# Altium footprint library SOP.PcbLib: 64 footprints (part 3 of 4)
Each footprint in its own frame and in the unit in brackets; x right, y up, seen from the top. Pads: shape width x height; smd on the part's side, far side on the other; paste and mask are expansions set on the pad; w line width, h text height; cw(c..) or ccw(c..) is an arc to the next point about the centre after c.
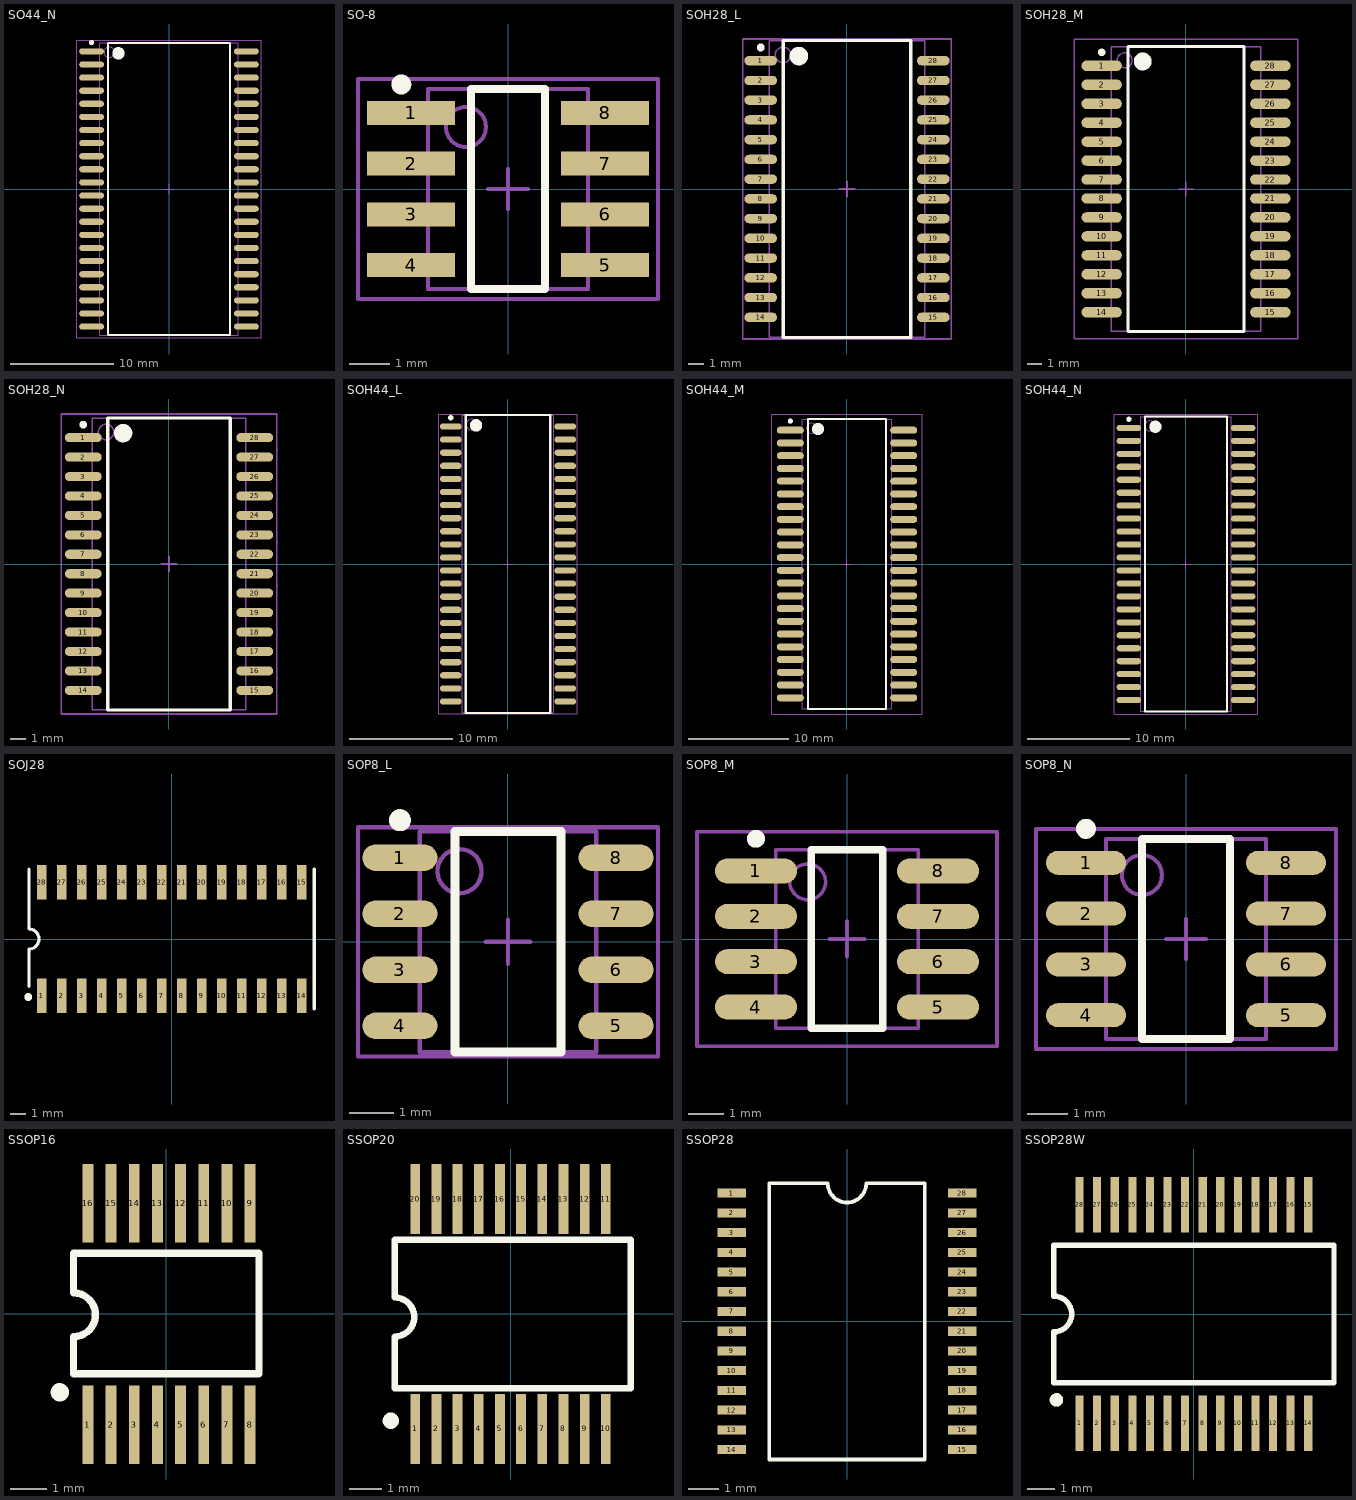
[diagram p2: the footprints below, top view; thin cyan lines are the x and y axes]

## SO44_N [mm] "44-Pin Plastic Small Outline Package 1.27 mm Pitch, IPC Medium Density"
pads (44):
  oval 2.4x0.6 smd: 1(-7.5,13.335) 2(-7.5,12.065) 3(-7.5,10.795) 4(-7.5,9.525) 5(-7.5,8.255) 6(-7.5,6.985) 7(-7.5,5.715) 8(-7.5,4.445) 9(-7.5,3.175) 10(-7.5,1.905) 11(-7.5,0.635) 12(-7.5,-0.635) 13(-7.5,-1.905) 14(-7.5,-3.175) 15(-7.5,-4.445) 16(-7.5,-5.715) 17(-7.5,-6.985) 18(-7.5,-8.255) 19(-7.5,-9.525) 20(-7.5,-10.795) 21(-7.5,-12.065) 22(-7.5,-13.335) 23(7.5,-13.335) 24(7.5,-12.065) 25(7.5,-10.795) 26(7.5,-9.525) 27(7.5,-8.255) 28(7.5,-6.985) 29(7.5,-5.715) 30(7.5,-4.445) 31(7.5,-3.175) 32(7.5,-1.905) 33(7.5,-0.635) 34(7.5,0.635) 35(7.5,1.905) 36(7.5,3.175) 37(7.5,4.445) 38(7.5,5.715) 39(7.5,6.985) 40(7.5,8.255) 41(7.5,9.525) 42(7.5,10.795) 43(7.5,12.065) 44(7.5,13.335)
Top Overlay:
  circle w0.25: c-7.5,14.185 r0.125
  circle w0.6: c-4.9,13.15 r0.3
  lines w0.2: -5.9,-14.15 -5.9,14.15 5.9,14.15 5.9,-14.15 -5.9,-14.15
Mechanical 13:
  circle w0.1: c-5.8,13.25 r0.5
  lines w0.1: -6.7,-14.15 -6.7,14.15 6.7,14.15 6.7,-14.15 -6.7,-14.15
Mechanical 15:
  lines w0.1: -0.5,0 0.5,0 ; 0,-0.5 0,0.5 ; -8.95,-14.4 -8.95,14.4 8.95,14.4 8.95,-14.4 -8.95,-14.4
3D body: height 0, standoff 0, extent -6.7,-14.15 6.7,14.15

## SO-8 [mm] "1.2 A current limited high-side power switch with thermal shutdown"
height 1.75
pads (8):
  rect 2.2x0.6 smd: 1(-2.425,1.905) 2(-2.425,0.635) 3(-2.425,-0.635) 4(-2.425,-1.905) 5(2.425,-1.905) 6(2.425,-0.635) 7(2.425,0.635) 8(2.425,1.905)
Top Overlay:
  circle w0.25: c-2.667,2.614 r0.125
  lines w0.2: -0.925,-2.5 -0.925,2.5 0.925,2.5 0.925,-2.5 -0.925,-2.5
Mechanical 13:
  circle w0.1: c-1.05,1.55 r0.5
  lines w0.1: -2,-2.5 -2,2.5 2,2.5 2,-2.5 -2,-2.5
Mechanical 15:
  lines w0.1: -0.5,0 0.5,0 ; 0,-0.5 0,0.5 ; -3.75,-2.75 -3.75,2.75 3.75,2.75 3.75,-2.75 -3.75,-2.75
3D body: height 1.45, standoff 0.1, extent -2,-2.5 2,2.5

## SOH28_L [mm] "28-Pin Plastic Battery Snaphat Small Outline Package 1.27 mm Pitch, IPC High Density"
height 3.05
pads (28):
  oval 2.1x0.6 smd: 1(-5.55,8.255) 2(-5.55,6.985) 3(-5.55,5.715) 4(-5.55,4.445) 5(-5.55,3.175) 6(-5.55,1.905) 7(-5.55,0.635) 8(-5.55,-0.635) 9(-5.55,-1.905) 10(-5.55,-3.175) 11(-5.55,-4.445) 12(-5.55,-5.715) 13(-5.55,-6.985) 14(-5.55,-8.255) 15(5.55,-8.255) 16(5.55,-6.985) 17(5.55,-5.715) 18(5.55,-4.445) 19(5.55,-3.175) 20(5.55,-1.905) 21(5.55,-0.635) 22(5.55,0.635) 23(5.55,1.905) 24(5.55,3.175) 25(5.55,4.445) 26(5.55,5.715) 27(5.55,6.985) 28(5.55,8.255)
Top Overlay:
  circle w0.25: c-5.55,9.105 r0.125
  circle w0.6: c-3.1,8.55 r0.3
  lines w0.2: -4.1,-9.55 -4.1,9.55 4.1,9.55 4.1,-9.55 -4.1,-9.55
Mechanical 13:
  circle w0.1: c-4.115,8.625 r0.5
  lines w0.1: -5.015,-9.525 -5.015,9.525 5.015,9.525 5.015,-9.525 -5.015,-9.525
Mechanical 15:
  lines w0.1: -0.5,0 0.5,0 ; 0,-0.5 0,0.5 ; -6.7,-9.65 -6.7,9.65 6.7,9.65 6.7,-9.65 -6.7,-9.65
3D body: height 3.05, standoff 0, extent -5.015,-9.525 5.015,9.525

## SOH28_M [mm] "28-Pin Plastic Battery Snaphat Small Outline Package 1.27 mm Pitch, IPC Low Density"
height 3.05
pads (28):
  oval 2.7x0.7 smd: 1(-5.65,8.255) 2(-5.65,6.985) 3(-5.65,5.715) 4(-5.65,4.445) 5(-5.65,3.175) 6(-5.65,1.905) 7(-5.65,0.635) 8(-5.65,-0.635) 9(-5.65,-1.905) 10(-5.65,-3.175) 11(-5.65,-4.445) 12(-5.65,-5.715) 13(-5.65,-6.985) 14(-5.65,-8.255) 15(5.65,-8.255) 16(5.65,-6.985) 17(5.65,-5.715) 18(5.65,-4.445) 19(5.65,-3.175) 20(5.65,-1.905) 21(5.65,-0.635) 22(5.65,0.635) 23(5.65,1.905) 24(5.65,3.175) 25(5.65,4.445) 26(5.65,5.715) 27(5.65,6.985) 28(5.65,8.255)
Top Overlay:
  circle w0.25: c-5.65,9.155 r0.125
  circle w0.6: c-2.9,8.55 r0.3
  lines w0.2: -3.9,-9.55 -3.9,9.55 3.9,9.55 3.9,-9.55 -3.9,-9.55
Mechanical 13:
  circle w0.1: c-4.115,8.625 r0.5
  lines w0.1: -5.015,-9.525 -5.015,9.525 5.015,9.525 5.015,-9.525 -5.015,-9.525
Mechanical 15:
  lines w0.1: -0.5,0 0.5,0 ; 0,-0.5 0,0.5 ; -7.5,-10.05 -7.5,10.05 7.5,10.05 7.5,-10.05 -7.5,-10.05
3D body: height 3.05, standoff 0, extent -5.015,-9.525 5.015,9.525

## SOH28_N [mm] "28-Pin Plastic Battery Snaphat Small Outline Package 1.27 mm Pitch, IPC Medium Density"
height 3.05
pads (28):
  oval 2.4x0.6 smd: 1(-5.6,8.255) 2(-5.6,6.985) 3(-5.6,5.715) 4(-5.6,4.445) 5(-5.6,3.175) 6(-5.6,1.905) 7(-5.6,0.635) 8(-5.6,-0.635) 9(-5.6,-1.905) 10(-5.6,-3.175) 11(-5.6,-4.445) 12(-5.6,-5.715) 13(-5.6,-6.985) 14(-5.6,-8.255) 15(5.6,-8.255) 16(5.6,-6.985) 17(5.6,-5.715) 18(5.6,-4.445) 19(5.6,-3.175) 20(5.6,-1.905) 21(5.6,-0.635) 22(5.6,0.635) 23(5.6,1.905) 24(5.6,3.175) 25(5.6,4.445) 26(5.6,5.715) 27(5.6,6.985) 28(5.6,8.255)
Top Overlay:
  circle w0.25: c-5.6,9.105 r0.125
  circle w0.6: c-3,8.55 r0.3
  lines w0.2: -4,-9.55 -4,9.55 4,9.55 4,-9.55 -4,-9.55
Mechanical 13:
  circle w0.1: c-4.115,8.625 r0.5
  lines w0.1: -5.015,-9.525 -5.015,9.525 5.015,9.525 5.015,-9.525 -5.015,-9.525
Mechanical 15:
  lines w0.1: -0.5,0 0.5,0 ; 0,-0.5 0,0.5 ; -7.05,-9.8 -7.05,9.8 7.05,9.8 7.05,-9.8 -7.05,-9.8
3D body: height 3.05, standoff 0, extent -5.015,-9.525 5.015,9.525

## SOH44_L [mm] "44-Pin Plastic Battery Snaphat Small Outline Package 1.27 mm Pitch, IPC High Density"
height 3.05
pads (44):
  oval 2.1x0.6 smd: 1(-5.55,13.335) 2(-5.55,12.065) 3(-5.55,10.795) 4(-5.55,9.525) 5(-5.55,8.255) 6(-5.55,6.985) 7(-5.55,5.715) 8(-5.55,4.445) 9(-5.55,3.175) 10(-5.55,1.905) 11(-5.55,0.635) 12(-5.55,-0.635) 13(-5.55,-1.905) 14(-5.55,-3.175) 15(-5.55,-4.445) 16(-5.55,-5.715) 17(-5.55,-6.985) 18(-5.55,-8.255) 19(-5.55,-9.525) 20(-5.55,-10.795) 21(-5.55,-12.065) 22(-5.55,-13.335) 23(5.55,-13.335) 24(5.55,-12.065) 25(5.55,-10.795) 26(5.55,-9.525) 27(5.55,-8.255) 28(5.55,-6.985) 29(5.55,-5.715) 30(5.55,-4.445) 31(5.55,-3.175) 32(5.55,-1.905) 33(5.55,-0.635) 34(5.55,0.635) 35(5.55,1.905) 36(5.55,3.175) 37(5.55,4.445) 38(5.55,5.715) 39(5.55,6.985) 40(5.55,8.255) 41(5.55,9.525) 42(5.55,10.795) 43(5.55,12.065) 44(5.55,13.335)
Top Overlay:
  circle w0.25: c-5.55,14.185 r0.125
  circle w0.6: c-3.1,13.45 r0.3
  lines w0.2: -4.1,-14.45 -4.1,14.45 4.1,14.45 4.1,-14.45 -4.1,-14.45
Mechanical 13:
  circle w0.1: c-3.545,13.535 r0.5
  lines w0.1: -4.445,-14.435 -4.445,14.435 4.445,14.435 4.445,-14.435 -4.445,-14.435
Mechanical 15:
  lines w0.1: -0.5,0 0.5,0 ; 0,-0.5 0,0.5 ; -6.7,-14.55 -6.7,14.55 6.7,14.55 6.7,-14.55 -6.7,-14.55
3D body: height 3.05, standoff 0, extent -4.445,-14.435 4.445,14.435

## SOH44_M [mm] "44-Pin Plastic Battery Snaphat Small Outline Package 1.27 mm Pitch, IPC Low Density"
height 3.05
pads (44):
  oval 2.7x0.7 smd: 1(-5.65,13.335) 2(-5.65,12.065) 3(-5.65,10.795) 4(-5.65,9.525) 5(-5.65,8.255) 6(-5.65,6.985) 7(-5.65,5.715) 8(-5.65,4.445) 9(-5.65,3.175) 10(-5.65,1.905) 11(-5.65,0.635) 12(-5.65,-0.635) 13(-5.65,-1.905) 14(-5.65,-3.175) 15(-5.65,-4.445) 16(-5.65,-5.715) 17(-5.65,-6.985) 18(-5.65,-8.255) 19(-5.65,-9.525) 20(-5.65,-10.795) 21(-5.65,-12.065) 22(-5.65,-13.335) 23(5.65,-13.335) 24(5.65,-12.065) 25(5.65,-10.795) 26(5.65,-9.525) 27(5.65,-8.255) 28(5.65,-6.985) 29(5.65,-5.715) 30(5.65,-4.445) 31(5.65,-3.175) 32(5.65,-1.905) 33(5.65,-0.635) 34(5.65,0.635) 35(5.65,1.905) 36(5.65,3.175) 37(5.65,4.445) 38(5.65,5.715) 39(5.65,6.985) 40(5.65,8.255) 41(5.65,9.525) 42(5.65,10.795) 43(5.65,12.065) 44(5.65,13.335)
Top Overlay:
  circle w0.25: c-5.65,14.235 r0.125
  circle w0.6: c-2.9,13.45 r0.3
  lines w0.2: -3.9,-14.45 -3.9,14.45 3.9,14.45 3.9,-14.45 -3.9,-14.45
Mechanical 13:
  circle w0.1: c-3.545,13.535 r0.5
  lines w0.1: -4.445,-14.435 -4.445,14.435 4.445,14.435 4.445,-14.435 -4.445,-14.435
Mechanical 15:
  lines w0.1: -0.5,0 0.5,0 ; 0,-0.5 0,0.5 ; -7.5,-14.95 -7.5,14.95 7.5,14.95 7.5,-14.95 -7.5,-14.95
3D body: height 3.05, standoff 0, extent -4.445,-14.435 4.445,14.435

## SOH44_N [mm] "44-Pin Plastic Battery Snaphat Small Outline Package 1.27 mm Pitch, IPC Medium Density"
height 3.05
pads (44):
  oval 2.4x0.6 smd: 1(-5.6,13.335) 2(-5.6,12.065) 3(-5.6,10.795) 4(-5.6,9.525) 5(-5.6,8.255) 6(-5.6,6.985) 7(-5.6,5.715) 8(-5.6,4.445) 9(-5.6,3.175) 10(-5.6,1.905) 11(-5.6,0.635) 12(-5.6,-0.635) 13(-5.6,-1.905) 14(-5.6,-3.175) 15(-5.6,-4.445) 16(-5.6,-5.715) 17(-5.6,-6.985) 18(-5.6,-8.255) 19(-5.6,-9.525) 20(-5.6,-10.795) 21(-5.6,-12.065) 22(-5.6,-13.335) 23(5.6,-13.335) 24(5.6,-12.065) 25(5.6,-10.795) 26(5.6,-9.525) 27(5.6,-8.255) 28(5.6,-6.985) 29(5.6,-5.715) 30(5.6,-4.445) 31(5.6,-3.175) 32(5.6,-1.905) 33(5.6,-0.635) 34(5.6,0.635) 35(5.6,1.905) 36(5.6,3.175) 37(5.6,4.445) 38(5.6,5.715) 39(5.6,6.985) 40(5.6,8.255) 41(5.6,9.525) 42(5.6,10.795) 43(5.6,12.065) 44(5.6,13.335)
Top Overlay:
  circle w0.25: c-5.6,14.185 r0.125
  circle w0.6: c-3,13.45 r0.3
  lines w0.2: -4,-14.45 -4,14.45 4,14.45 4,-14.45 -4,-14.45
Mechanical 13:
  circle w0.1: c-3.545,13.535 r0.5
  lines w0.1: -4.445,-14.435 -4.445,14.435 4.445,14.435 4.445,-14.435 -4.445,-14.435
Mechanical 15:
  lines w0.1: -0.5,0 0.5,0 ; 0,-0.5 0,0.5 ; -7.05,-14.7 -7.05,14.7 7.05,14.7 7.05,-14.7 -7.05,-14.7
3D body: height 3.05, standoff 0, extent -4.445,-14.435 4.445,14.435

## SOJ28 [mm] "SOJ; 28 Leads; Body Width 7.5 mm; Pitch 1.27 mm"
height 3.56
pads (28):
  rect 0.6x2.2 smd: 1(-8.255,-3.6) 2(-6.985,-3.6) 3(-5.715,-3.6) 4(-4.445,-3.6) 5(-3.175,-3.6) 6(-1.905,-3.6) 7(-0.635,-3.6) 8(0.635,-3.6) 9(1.905,-3.6) 10(3.175,-3.6) 11(4.445,-3.6) 12(5.715,-3.6) 13(6.985,-3.6) 14(8.255,-3.6) 15(8.255,3.6) 16(6.985,3.6) 17(5.715,3.6) 18(4.445,3.6) 19(3.175,3.6) 20(1.905,3.6) 21(0.635,3.6) 22(-0.635,3.6) 23(-1.905,3.6) 24(-3.175,3.6) 25(-4.445,3.6) 26(-5.715,3.6) 27(-6.985,3.6) 28(-8.255,3.6)
Top Overlay:
  circle w0.25: c-9.105,-3.68 r0.125
  lines w0.2: -9.055,-3 -9.055,-0.639 ccw(c-9.055,-0.004) -9.055,0.631 -9.055,4.45 ; 9.055,-4.45 9.055,4.45
3D body: height 1.1, standoff 0, extent -9.017,-2.921 8.89,3.048

## SOP8_L [mm] "8-Pin Small Outline Integrated Circuit 1.27 mm Pitch, IPC High Density"
height 1.75
pads (8):
  oval 1.7x0.6 smd: 1(-2.45,1.905) 2(-2.45,0.635) 3(-2.45,-0.635) 4(-2.45,-1.905) 5(2.45,-1.905) 6(2.45,-0.635) 7(2.45,0.635) 8(2.45,1.905)
Top Overlay:
  circle w0.25: c-2.45,2.755 r0.125
  lines w0.2: -1.2,-2.5 -1.2,2.5 1.2,2.5 1.2,-2.5 -1.2,-2.5
Mechanical 13:
  circle w0.1: c-1.1,1.6 r0.5
  lines w0.1: -2,-2.5 -2,2.5 2,2.5 2,-2.5 -2,-2.5
Mechanical 15:
  lines w0.1: -0.5,0 0.5,0 ; 0,-0.5 0,0.5 ; -3.4,-2.6 -3.4,2.6 3.4,2.6 3.4,-2.6 -3.4,-2.6
3D body: height 1.75, standoff 0, extent -2,-2.5 2,2.5

## SOP8_M [mm] "8-Pin Small Outline Integrated Circuit 1.27 mm Pitch, IPC Low Density"
height 1.75
pads (8):
  oval 2.3x0.7 smd: 1(-2.55,1.905) 2(-2.55,0.635) 3(-2.55,-0.635) 4(-2.55,-1.905) 5(2.55,-1.905) 6(2.55,-0.635) 7(2.55,0.635) 8(2.55,1.905)
Top Overlay:
  circle w0.25: c-2.55,2.805 r0.125
  lines w0.2: -1,-2.5 1,-2.5 1,2.5 -1,2.5 -1,-2.5
Mechanical 13:
  circle w0.1: c-1.1,1.6 r0.5
  lines w0.1: -2,-2.5 2,-2.5 2,2.5 -2,2.5 -2,-2.5
Mechanical 15:
  lines w0.1: -0.5,0 0.5,0 ; 0,-0.5 0,0.5 ; -4.2,-3 4.2,-3 4.2,3 -4.2,3 -4.2,-3
3D body: height 1.75, standoff 0, extent -2,-2.5 2,2.5

## SOP8_N [mm] "8-Pin Small Outline Integrated Circuit 1.27 mm Pitch, IPC Medium Density"
height 1.75
pads (8):
  oval 2x0.6 smd: 1(-2.5,1.905) 2(-2.5,0.635) 3(-2.5,-0.635) 4(-2.5,-1.905) 5(2.5,-1.905) 6(2.5,-0.635) 7(2.5,0.635) 8(2.5,1.905)
Top Overlay:
  circle w0.25: c-2.5,2.755 r0.125
  lines w0.2: -1.1,-2.5 1.1,-2.5 1.1,2.5 -1.1,2.5 -1.1,-2.5
Mechanical 13:
  circle w0.1: c-1.1,1.6 r0.5
  lines w0.1: -2,-2.5 2,-2.5 2,2.5 -2,2.5 -2,-2.5
Mechanical 15:
  lines w0.1: -0.5,0 0.5,0 ; 0,-0.5 0,0.5 ; -3.75,-2.75 3.75,-2.75 3.75,2.75 -3.75,2.75 -3.75,-2.75
3D body: height 1.75, standoff 0, extent -2,-2.5 2,2.5

## SSOP16 [mm] "SSOP, Plastic; 16 Leads; Body Width 5.3 mm; Pitch 0.65 mm"
height 2
pads (16):
  rect 0.3x2.15 smd: 1(-2.148,-3.048) 2(-1.513,-3.048) 3(-0.878,-3.048) 4(-0.243,-3.048) 5(0.392,-3.048) 6(1.027,-3.048) 7(1.662,-3.048) 8(2.297,-3.048) 9(2.297,3.021) 10(1.662,3.021) 11(1.027,3.021) 12(0.392,3.021) 13(-0.243,3.021) 14(-0.878,3.021) 15(-1.513,3.021) 16(-2.148,3.021)
Top Overlay:
  circle w0.25: c-2.919,-2.159 r0.125
  lines w0.2: -2.54,0.565 cw(c-2.54,-0.035) -2.54,-0.635 -2.54,-1.651 2.54,-1.651 2.54,1.651 -2.54,1.651 -2.54,0.578
3D body: height 2, standoff 0.05, extent -2.456,-2.419 2.54,2.286

## SSOP20 [mm] "SSOP, Plastic; 20 Leads; Body Width 5.3 mm; Pitch 0.65 mm"
height 2
pads (20):
  rect 0.3x2.15 smd: 1(-2.925,-3.529) 2(-2.275,-3.529) 3(-1.625,-3.529) 4(-0.975,-3.529) 5(-0.325,-3.529) 6(0.325,-3.529) 7(0.975,-3.529) 8(1.625,-3.529) 9(2.275,-3.529) 10(2.925,-3.529) 11(2.925,3.529) 12(2.275,3.529) 13(1.625,3.529) 14(0.975,3.529) 15(0.325,3.529) 16(-0.325,3.529) 17(-0.975,3.529) 18(-1.625,3.529) 19(-2.275,3.529) 20(-2.925,3.529)
Top Overlay:
  circle w0.25: c-3.675,-3.275 r0.125
  lines w0.2: -3.556,-0.762 -3.556,-2.286 3.683,-2.286 3.683,2.286 -3.556,2.286 -3.556,0.508 cw(c-3.556,-0.092) -3.556,-0.692
3D body: height 2, standoff 0.05, extent -3.599,-2.673 3.683,2.927

## SSOP28 [mm]
pads (28):
  rect 0.95x0.3 smd: 1(-3.8,4.225) 2(-3.8,3.575) 3(-3.8,2.925) 4(-3.8,2.275) 5(-3.8,1.625) 6(-3.8,0.975) 7(-3.8,0.325) 8(-3.8,-0.325) 9(-3.8,-0.975) 10(-3.8,-1.625) 11(-3.8,-2.275) 12(-3.8,-2.925) 13(-3.8,-3.575) 14(-3.8,-4.225) 15(3.8,-4.225) 16(3.8,-3.575) 17(3.8,-2.925) 18(3.8,-2.275) 19(3.8,-1.625) 20(3.8,-0.975) 21(3.8,-0.325) 22(3.8,0.325) 23(3.8,0.975) 24(3.8,1.625) 25(3.8,2.275) 26(3.8,2.925) 27(3.8,3.575) 28(3.8,4.225)
Top Overlay:
  lines w0.127: -2.563,-4.55 -2.563,4.55 -0.635,4.55 ccw(c0,4.55) 0.635,4.55 2.563,4.55 2.563,-4.55 -2.563,-4.55
3D body: height 2, standoff 0.05, extent -2.8,-4.572 2.8,4.742

## SSOP28W [mm] "SSOP, Plastic; 28 Leads; Body Width 5.3 mm; Pitch 0.65 mm"
height 2
pads (28):
  rect 0.3x2.05 smd: 1(-4.225,-4.035) 2(-3.575,-4.035) 3(-2.925,-4.035) 4(-2.275,-4.035) 5(-1.625,-4.035) 6(-0.975,-4.035) 7(-0.325,-4.035) 8(0.325,-4.035) 9(0.975,-4.035) 10(1.625,-4.035) 11(2.275,-4.035) 12(2.925,-4.035) 13(3.575,-4.035) 14(4.225,-4.035) 15(4.225,4.035) 16(3.575,4.035) 17(2.925,4.035) 18(2.275,4.035) 19(1.625,4.035) 20(0.975,4.035) 21(0.325,4.035) 22(-0.325,4.035) 23(-0.975,4.035) 24(-1.625,4.035) 25(-2.275,4.035) 26(-2.925,4.035) 27(-3.575,4.035) 28(-4.225,4.035)
Top Overlay:
  circle w0.25: c-5.078,-3.175 r0.125
  lines w0.2: -5.175,-2.54 5.175,-2.54 5.175,2.54 -5.175,2.54 -5.175,0.658 cw(c-5.175,0) -5.175,-0.658 -5.175,-2.54
3D body: height 2, standoff 0.05, extent -5.25,-2.8 5.25,2.8